# EAGLE library part 95278 (library con-amphenol)
SMD ISP Connector
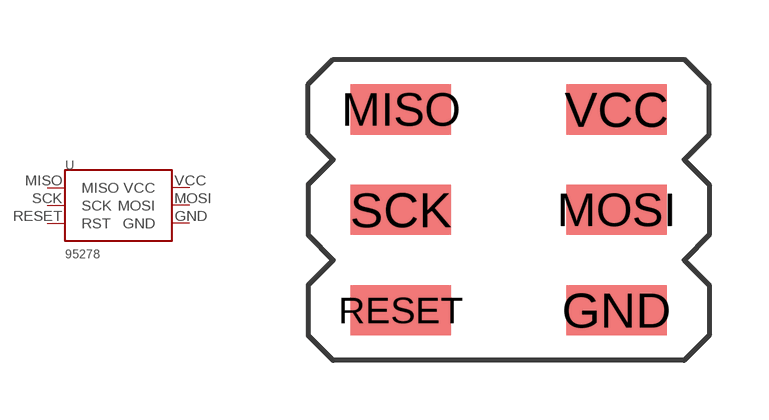
[diagram p13: symbol with the pads of 6_PIN_.1PITCH; footprint 6_PIN_.1PITCH]

Designator prefix -

## 95278  [6_PIN_.1PITCH]
GND  GND
MISO  MISO
MOSI  MOSI
RESET  RST
SCK  SCK
VCC  VCC

## Footprint 6_PIN_.1PITCH (pad centres in mm)
smd 2.54 x 1.27: GND 2.73,-2.54; MISO -2.73,2.54; MOSI 2.73,0; RESET -2.73,-2.54; SCK -2.73,0; VCC 2.73,2.54